# EAGLE library part INA129 (library Components)
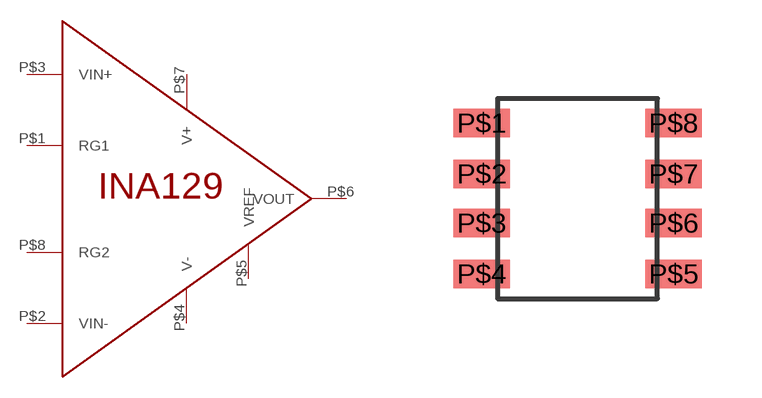
[diagram p0: symbol with the pads of INA129; footprint INA129]

Designator prefix -

## INA129  [INA129]
P$1  RG1
P$2  VIN-
P$3  VIN+
P$4  V-
P$5  VREF
P$6  VOUT
P$7  V+
P$8  RG2

## Footprint INA129 (pad centres in mm)
smd 1.422 x 0.711: P$1 -2.4,1.885; P$2 -2.4,0.615; P$3 -2.4,-0.615; P$4 -2.4,-1.885; P$5 2.4,-1.885; P$6 2.4,-0.615; P$7 2.4,0.615; P$8 2.4,1.885